# Altium footprint library Capacitor - Aluminium TH.PcbLib: 31 footprints (part 1 of 2)
Each footprint in its own frame and in the unit in brackets; x right, y up, seen from the top. Pads: shape width x height; smd on the part's side, far side on the other; paste and mask are expansions set on the pad; w line width, h text height; cw(c..) or ccw(c..) is an arc to the next point about the centre after c.
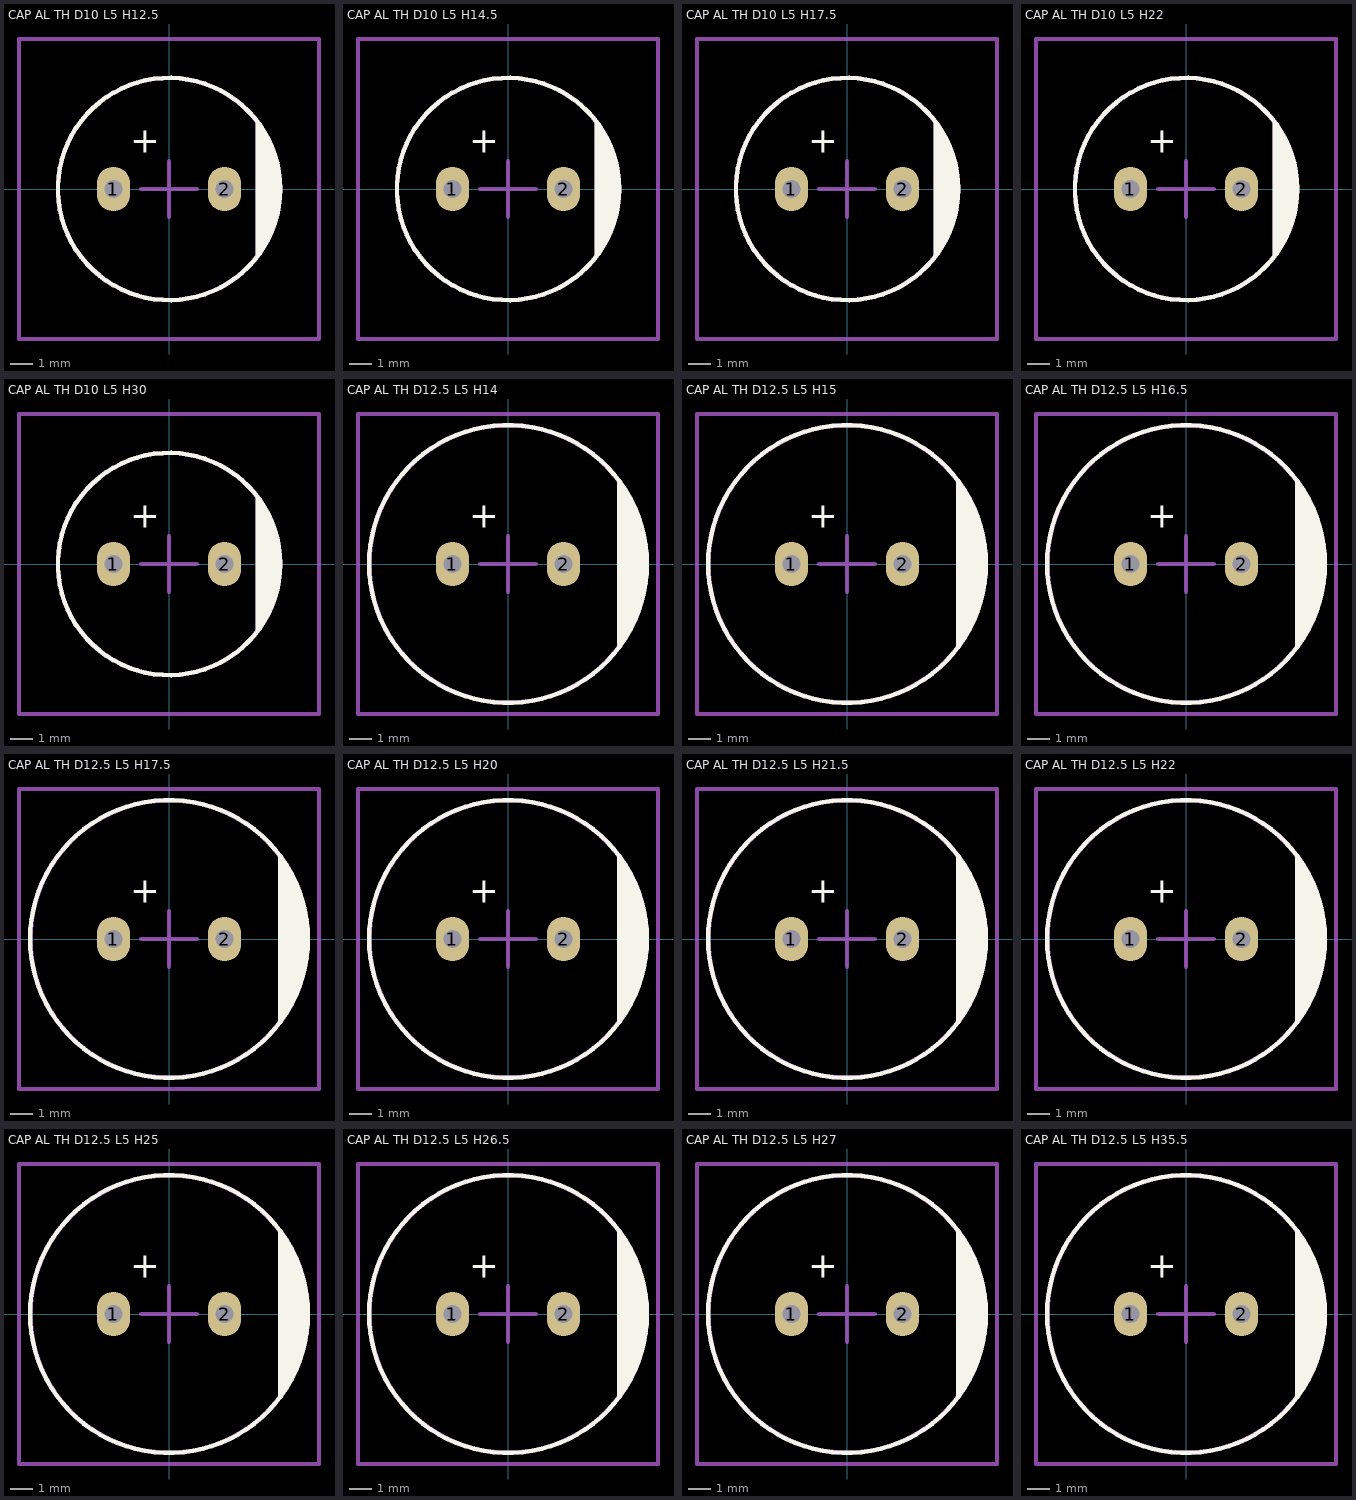
[diagram p0: the footprints below, top view; thin cyan lines are the x and y axes]

## CAP AL TH D10 L5 H12.5 [mm] "10MM Diameter, 5MM Lead Spacing Aluminium Capacitor"
height 12.5
pads (2):
  oval 1.5x2 hole 0.8: 1(-2.5,0) 2(2.5,0)
Top Overlay:
  circle w0.2: c0,0 r5
  region: 4,3 4.5,2.25 5,0.75 5,-0.75 4.75,-1.5 4.25,-2.75 4,-3
  lines w0.2: 4,-3 4,3
  text "+" at -1.75,1.25 h2
Mechanical 13:
  circle w0.2: c0,0 r5
  lines w0.2: 4,-3 4,3
Mechanical 15:
  lines w0.2: -1.25,0 1.25,0 ; 0,-1.25 0,1.25 ; -6.75,-6.75 0,-6.75 6.75,-6.75 6.75,0 6.75,6.75 0,6.75 -6.75,6.75 -6.75,0 -6.75,-6.75
3D body "CAP ALTH D-10MM L-5.0MM H-12.5MM.STEP": height 12.7, standoff -3, extent -5,-4.999 5,4.999

## CAP AL TH D10 L5 H14.5 [mm] "10MM Diameter, 5MM Lead Spacing Aluminium Capacitor"
height 14.5
pads (2):
  oval 1.5x2 hole 0.8: 1(-2.5,0) 2(2.5,0)
Top Overlay:
  circle w0.2: c0,0 r5
  region: 4,3 4.5,2.25 5,0.75 5,-0.75 4.75,-1.5 4.25,-2.75 4,-3
  lines w0.2: 4,-3 4,3
  text "+" at -1.75,1.25 h2
Mechanical 13:
  circle w0.2: c0,0 r5
  lines w0.2: 4,-3 4,3
Mechanical 15:
  lines w0.2: -1.25,0 1.25,0 ; 0,-1.25 0,1.25 ; -6.75,-6.75 -6.75,0 -6.75,6.75 0,6.75 6.75,6.75 6.75,0 6.75,-6.75 0,-6.75 -6.75,-6.75
3D body "CAP ALTH D-10MM L-5.0MM H-14.5MM.STEP": height 14.7, standoff -3, extent -5,-4.996 5,4.997

## CAP AL TH D10 L5 H17.5 [mm] "10MM Diameter, 5MM Lead Spacing Aluminium Capacitor"
height 17.5
pads (2):
  oval 1.5x2 hole 0.8: 1(-2.5,0) 2(2.5,0)
Top Overlay:
  circle w0.2: c0,0 r5
  region: 4,3 4.5,2.25 5,0.75 5,-0.75 4.75,-1.5 4.25,-2.75 4,-3
  lines w0.2: 4,-3 4,3
  text "+" at -1.75,1.25 h2
Mechanical 13:
  circle w0.2: c0,0 r5
  lines w0.2: 4,-3 4,3
Mechanical 15:
  lines w0.2: -1.25,0 1.25,0 ; 0,-1.25 0,1.25 ; -6.75,-6.75 -6.75,0 -6.75,6.75 0,6.75 6.75,6.75 6.75,0 6.75,-6.75 0,-6.75 -6.75,-6.75
3D body "CAP ALTH D-10MM L-5.0MM H-17.5MM.STEP": height 17.7, standoff -3, extent -5,-4.999 5,4.999

## CAP AL TH D10 L5 H22 [mm] "10MM Diameter, 5MM Lead Spacing Aluminium Capacitor"
height 22
pads (2):
  oval 1.5x2 hole 0.8: 1(-2.5,0) 2(2.5,0)
Top Overlay:
  circle w0.2: c0,0 r5
  region: 4,3 4.5,2.25 5,0.75 5,-0.75 4.75,-1.5 4.25,-2.75 4,-3
  lines w0.2: 4,-3 4,3
  text "+" at -1.75,1.25 h2
Mechanical 13:
  circle w0.2: c0,0 r5
  lines w0.2: 4,-3 4,3
Mechanical 15:
  lines w0.2: -1.25,0 1.25,0 ; 0,-1.25 0,1.25 ; -6.75,-6.75 -6.75,0 -6.75,6.75 0,6.75 6.75,6.75 6.75,0 6.75,-6.75 0,-6.75 -6.75,-6.75
3D body "CAP ALTH D-10MM L-5.0MM H-22MM.STEP": height 22.2, standoff -3, extent -5,-5 5,5

## CAP AL TH D10 L5 H30 [mm] "10MM Diameter, 5MM Lead Spacing Aluminium Capacitor"
height 30
pads (2):
  oval 1.5x2 hole 0.8: 1(-2.5,0) 2(2.5,0)
Top Overlay:
  circle w0.2: c0,0 r5
  region: 4,3 4.5,2.25 5,0.75 5,-0.75 4.75,-1.5 4.25,-2.75 4,-3
  lines w0.2: 4,-3 4,3
  text "+" at -1.75,1.25 h2
Mechanical 13:
  circle w0.2: c0,0 r5
  lines w0.2: 4,-3 4,3
Mechanical 15:
  lines w0.2: -1.25,0 1.25,0 ; 0,-1.25 0,1.25 ; -6.75,-6.75 -6.75,0 -6.75,6.75 0,6.75 6.75,6.75 6.75,0 6.75,-6.75 0,-6.75 -6.75,-6.75
3D body "CAP ALTH D-10MM L-5.0MM H-30MM.STEP": height 30.2, standoff -3, extent -5,-4.991 5,4.992

## CAP AL TH D12.5 L5 H14 [mm] "12.5MM Diameter, 5MM Lead Spacing Aluminium Capacitor"
height 14
pads (2):
  oval 1.5x2 hole 0.8: 1(-2.5,0) 2(2.5,0)
Top Overlay:
  circle w0.2: c0,0 r6.25
  region: 5,-3.75 5,3.75 5.75,2.5 6.25,1 6.25,0 6,-1.5 5.75,-2.5
  lines w0.2: 5,-3.75 5,3.75
  text "+" at -1.75,1.25 h2
Mechanical 13:
  circle w0.2: c0,0 r6.241
  lines w0.2: 5,-3.75 5,3.75
Mechanical 15:
  lines w0.2: -1.25,0 1.25,0 ; 0,-1.25 0,1.25 ; -6.75,-6.75 0,-6.75 6.75,-6.75 6.75,0 6.75,6.75 0,6.75 -6.75,6.75 -6.75,0 -6.75,-6.75
3D body "CAP ALTH D-12.5MM L-5.0MM H-14MM .STEP": height 14.2, standoff -3, extent -6.241,-6.25 6.25,6.25

## CAP AL TH D12.5 L5 H15 [mm] "12.5MM Diameter, 5MM Lead Spacing Aluminium Capacitor"
height 15
pads (2):
  oval 1.5x2 hole 0.8: 1(-2.5,0) 2(2.5,0)
Top Overlay:
  circle w0.2: c0,0 r6.25
  region: 5,-3.75 5,3.75 5.75,2.5 6.25,1 6.25,0 6,-1.5 5.75,-2.5
  lines w0.2: 5,-3.75 5,3.75
  text "+" at -1.75,1.25 h2
Mechanical 13:
  circle w0.2: c0,0 r6.241
  lines w0.2: 5,-3.75 5,3.75
Mechanical 15:
  lines w0.2: -1.25,0 1.25,0 ; 0,-1.25 0,1.25 ; -6.75,-6.75 -6.75,0 -6.75,6.75 0,6.75 6.75,6.75 6.75,0 6.75,-6.75 0,-6.75 -6.75,-6.75
3D body "CAP ALTH D-12.5MM L-5.0MM H-15MM .STEP": height 15.2, standoff -3, extent -6.25,-6.245 6.25,6.245

## CAP AL TH D12.5 L5 H16.5 [mm] "12.5MM Diameter, 5MM Lead Spacing Aluminium Capacitor"
height 16.5
pads (2):
  oval 1.5x2 hole 0.8: 1(-2.5,0) 2(2.5,0)
Top Overlay:
  circle w0.2: c0,0 r6.25
  region: 5,-3.75 5,3.75 5.75,2.5 6.25,1 6.25,0 6,-1.5 5.75,-2.5
  lines w0.2: 5,-3.75 5,3.75
  text "+" at -1.75,1.25 h2
Mechanical 13:
  circle w0.2: c0,0 r6.241
  lines w0.2: 5,-3.75 5,3.75
Mechanical 15:
  lines w0.2: -1.25,0 1.25,0 ; 0,-1.25 0,1.25 ; -6.75,-6.75 -6.75,0 -6.75,6.75 0,6.75 6.75,6.75 6.75,0 6.75,-6.75 0,-6.75 -6.75,-6.75
3D body "CAP ALTH D-12.5MM L-5.0MM H-16.5MM .STEP": height 16.7, standoff -3, extent -6.25,-6.248 6.25,6.249

## CAP AL TH D12.5 L5 H17.5 [mm] "12.5MM Diameter, 5MM Lead Spacing Aluminium Capacitor"
height 17.5
pads (2):
  oval 1.5x2 hole 0.8: 1(-2.5,0) 2(2.5,0)
Top Overlay:
  circle w0.2: c0,0 r6.25
  region: 5,-3.75 5,3.75 5.75,2.5 6.25,1 6.25,0 6,-1.5 5.75,-2.5
  lines w0.2: 5,-3.75 5,3.75
  text "+" at -1.75,1.25 h2
Mechanical 13:
  circle w0.2: c0,0 r6.241
  lines w0.2: 5,-3.75 5,3.75
Mechanical 15:
  lines w0.2: -1.25,0 1.25,0 ; 0,-1.25 0,1.25 ; -6.75,-6.75 -6.75,0 -6.75,6.75 0,6.75 6.75,6.75 6.75,0 6.75,-6.75 0,-6.75 -6.75,-6.75
3D body "CAP ALTH D-12.5MM L-5.0MM H-17.5MM .STEP": height 17.7, standoff -3, extent -6.25,-6.247 6.25,6.247

## CAP AL TH D12.5 L5 H20 [mm] "12.5MM Diameter, 5MM Lead Spacing Aluminium Capacitor"
height 20
pads (2):
  oval 1.5x2 hole 0.8: 1(-2.5,0) 2(2.5,0)
Top Overlay:
  circle w0.2: c0,0 r6.25
  region: 5,-3.75 5,3.75 5.75,2.5 6.25,1 6.25,0 6,-1.5 5.75,-2.5
  lines w0.2: 5,-3.75 5,3.75
  text "+" at -1.75,1.25 h2
Mechanical 13:
  circle w0.2: c0,0 r6.241
  lines w0.2: 5,-3.75 5,3.75
Mechanical 15:
  lines w0.2: -1.25,0 1.25,0 ; 0,-1.25 0,1.25 ; -6.75,-6.75 0,-6.75 6.75,-6.75 6.75,0 6.75,6.75 0,6.75 -6.75,6.75 -6.75,0 -6.75,-6.75
3D body "CAP ALTH D-12.5MM L-5.0MM H-20MM.STEP": height 20.2, standoff -3, extent -6.25,-6.245 6.25,6.246

## CAP AL TH D12.5 L5 H21.5 [mm] "12.5MM Diameter, 5MM Lead Spacing Aluminium Capacitor"
height 21.5
pads (2):
  oval 1.5x2 hole 0.8: 1(-2.5,0) 2(2.5,0)
Top Overlay:
  circle w0.2: c0,0 r6.25
  region: 5,-3.75 5,3.75 5.75,2.5 6.25,1 6.25,0 6,-1.5 5.75,-2.5
  lines w0.2: 5,-3.75 5,3.75
  text "+" at -1.75,1.25 h2
Mechanical 13:
  circle w0.2: c0,0 r6.241
  lines w0.2: 5,-3.75 5,3.75
Mechanical 15:
  lines w0.2: -1.25,0 1.25,0 ; 0,-1.25 0,1.25 ; -6.75,-6.75 0,-6.75 6.75,-6.75 6.75,0 6.75,6.75 0,6.75 -6.75,6.75 -6.75,0 -6.75,-6.75
3D body "CAP ALTH D-12.5MM L-5.0MM H-21.5MM.STEP": height 21.7, standoff -3, extent -6.25,-6.249 6.25,6.249

## CAP AL TH D12.5 L5 H22 [mm] "12.5MM Diameter, 5MM Lead Spacing Aluminium Capacitor"
height 22
pads (2):
  oval 1.5x2 hole 0.8: 1(-2.5,0) 2(2.5,0)
Top Overlay:
  circle w0.2: c0,0 r6.25
  region: 5,-3.75 5,3.75 5.75,2.5 6.25,1 6.25,0 6,-1.5 5.75,-2.5
  lines w0.2: 5,-3.75 5,3.75
  text "+" at -1.75,1.25 h2
Mechanical 13:
  circle w0.2: c0,0 r6.241
  lines w0.2: 5,-3.75 5,3.75
Mechanical 15:
  lines w0.2: -1.25,0 1.25,0 ; 0,-1.25 0,1.25 ; -6.75,-6.75 0,-6.75 6.75,-6.75 6.75,0 6.75,6.75 0,6.75 -6.75,6.75 -6.75,0 -6.75,-6.75
3D body "CAP ALTH D-12.5MM L-5.0MM H-22MM.STEP": height 22.2, standoff -3, extent -6.25,-6.249 6.25,6.249

## CAP AL TH D12.5 L5 H25 [mm] "12.5MM Diameter, 5MM Lead Spacing Aluminium Capacitor"
height 25
pads (2):
  oval 1.5x2 hole 0.8: 1(-2.5,0) 2(2.5,0)
Top Overlay:
  circle w0.2: c0,0 r6.25
  region: 5,-3.75 5,3.75 5.75,2.5 6.25,1 6.25,0 6,-1.5 5.75,-2.5
  lines w0.2: 5,-3.75 5,3.75
  text "+" at -1.75,1.25 h2
Mechanical 13:
  circle w0.2: c0,0 r6.241
  lines w0.2: 5,-3.75 5,3.75
Mechanical 15:
  lines w0.2: -1.25,0 1.25,0 ; 0,-1.25 0,1.25 ; -6.75,-6.75 -6.75,0 -6.75,6.75 0,6.75 6.75,6.75 6.75,0 6.75,-6.75 0,-6.75 -6.75,-6.75
3D body "CAP ALTH D-12.5MM L-5.0MM H-25MM.STEP": height 25.2, standoff -3, extent -6.25,-6.246 6.25,6.247

## CAP AL TH D12.5 L5 H26.5 [mm] "12.5MM Diameter, 5MM Lead Spacing Aluminium Capacitor"
height 26.5
pads (2):
  oval 1.5x2 hole 0.8: 1(-2.5,0) 2(2.5,0)
Top Overlay:
  circle w0.2: c0,0 r6.25
  region: 5,-3.75 5,3.75 5.75,2.5 6.25,1 6.25,0 6,-1.5 5.75,-2.5
  lines w0.2: 5,-3.75 5,3.75
  text "+" at -1.75,1.25 h2
Mechanical 13:
  circle w0.2: c0,0 r6.241
  lines w0.2: 5,-3.75 5,3.75
Mechanical 15:
  lines w0.2: -1.25,0 1.25,0 ; 0,-1.25 0,1.25 ; -6.75,-6.75 0,-6.75 6.75,-6.75 6.75,0 6.75,6.75 0,6.75 -6.75,6.75 -6.75,0 -6.75,-6.75
3D body "CAP ALTH D-12.5MM L-5.0MM H-26.5MM.STEP": height 26.7, standoff -3, extent -6.25,-6.25 6.25,6.25

## CAP AL TH D12.5 L5 H27 [mm] "12.5MM Diameter, 5MM Lead Spacing Aluminium Capacitor"
height 27
pads (2):
  oval 1.5x2 hole 0.8: 1(-2.5,0) 2(2.5,0)
Top Overlay:
  circle w0.2: c0,0 r6.25
  region: 5,-3.75 5,3.75 5.75,2.5 6.25,1 6.25,0 6,-1.5 5.75,-2.5
  lines w0.2: 5,-3.75 5,3.75
  text "+" at -1.75,1.25 h2
Mechanical 13:
  circle w0.2: c0,0 r6.241
  lines w0.2: 5,-3.75 5,3.75
Mechanical 15:
  lines w0.2: -1.25,0 1.25,0 ; 0,-1.25 0,1.25 ; -6.75,-6.75 0,-6.75 6.75,-6.75 6.75,0 6.75,6.75 0,6.75 -6.75,6.75 -6.75,0 -6.75,-6.75
3D body "CAP ALTH D-12.5MM L-5.0MM H-27MM.STEP": height 27.2, standoff -3, extent -6.25,-6.25 6.25,6.25

## CAP AL TH D12.5 L5 H35.5 [mm] "12.5MM Diameter, 5MM Lead Spacing Aluminium Capacitor"
height 35.5
pads (2):
  oval 1.5x2 hole 0.8: 1(-2.5,0) 2(2.5,0)
Top Overlay:
  circle w0.2: c0,0 r6.25
  region: 5,-3.75 5,3.75 5.75,2.5 6.25,1 6.25,0 6,-1.5 5.75,-2.5
  lines w0.2: 5,-3.75 5,3.75
  text "+" at -1.75,1.25 h2
Mechanical 13:
  circle w0.2: c0,0 r6.241
  lines w0.2: 5,-3.75 5,3.75
Mechanical 15:
  lines w0.2: -1.25,0 1.25,0 ; 0,-1.25 0,1.25 ; -6.75,-6.75 0,-6.75 6.75,-6.75 6.75,0 6.75,6.75 0,6.75 -6.75,6.75 -6.75,0 -6.75,-6.75
3D body "CAP ALTH D-12.5MM L-5.0MM H-35.5MM.STEP": height 35.7, standoff -3, extent -6.25,-6.25 6.25,6.25